# EAGLE library part M51957B (library FaBo-Supply)
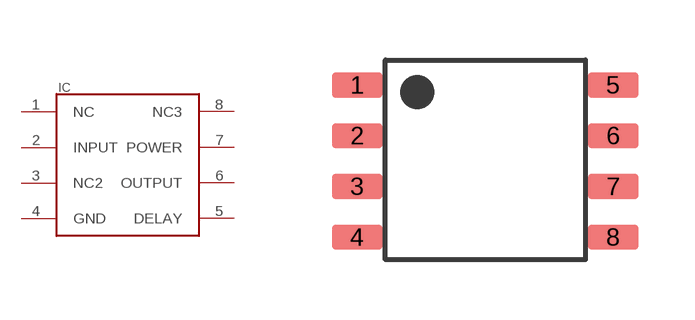
[diagram p15: symbol with the pads of SO8; footprint SO8]

Designator prefix IC

## M51957B  [SO8]
1  NC  nc
2  INPUT
3  NC2  nc
4  GND
5  DELAY
6  OUTPUT
7  POWER
8  NC3  nc

## Footprint SO8 (pad centres in mm)
smd 1.27 x 0.635: 1 -3.21,1.87; 2 -3.21,0.6; 3 -3.21,-0.67; 4 -3.21,-1.94; 5 3.19,1.87; 6 3.19,0.6; 7 3.19,-0.67; 8 3.19,-1.94